# Altium schematic symbol library LDR_Sensor.SchLib: 1 symbol
Pins are listed as number, name and electrical type; pins without a type are passive.

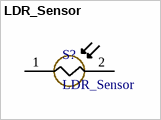
[diagram p0: symbol LDR_Sensor]

## LDR_Sensor
designator S?
LDR_Sensor sence the lighting; Manufacture: Advanced Photonix; Manufacture Part Number: NSL-19M51; Supplier: DigiKey; Supplier Part Number: NSL-19M51-ND
footprint Model Name (Footprint not found)
footprint LDR - duplicate
footprint LDR - duplicate
footprint LDR - duplicate
pins: 1, 2